# Altium schematic symbol library TPS6104x.SchLib: 1 symbol
Pins are listed as number, name and electrical type; pins without a type are passive.

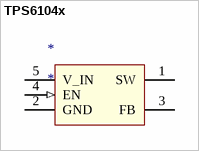
[diagram p0: symbol TPS6104x]

## TPS6104x
designator *
pins: 1 SW, 2 GND (power), 3 FB, 4 EN (in), 5 V_IN (power)